# Altium schematic symbol library SCH - RF - IC - TI CC1201.SchLib: 1 symbol
Pins are listed as number, name and electrical type; pins without a type are passive.

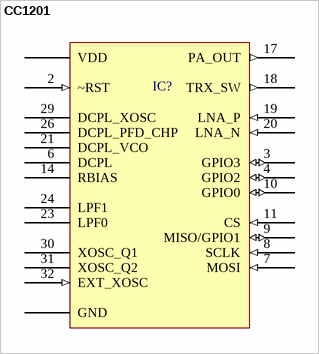
[diagram p0: symbol CC1201]

## CC1201
designator IC?  (value not drawn)
ISM Band RF Transceiver; Supplier 1: Digi-Key; Supplier Part Number 1: 296-39977-1-ND
pins: 1 VDD (power) "VDD_GUARD", 2 ~RST (in), 3 GPIO3 (io), 4 GPIO2 (io), 5 VDD (power) "DVDD", 6 DCPL, 7 MOSI (in), 8 SCLK (in), 9 MISO/GPIO1 (io), 10 GPIO0 (io), 11 CS (in), 12 VDD (power) "DVDD", 13 VDD (power) "AVDD_IF", 14 RBIAS, 15 VDD (power) "AVDD_RF", 17 PA_OUT (out), 18 TRX_SW (out), 19 LNA_P (in), 20 LNA_N (in), 21 DCPL_VCO, 22 VDD (power) "AVDD_SYNTH1", 23 LPF0, 24 LPF1, 25 VDD (power) "AVDD_PFD_CHP", 26 DCPL_PFD_CHP, 27 VDD (power) "AVDD_SYNTH2", 28 VDD (power) "AVDD_XOSC", 29 DCPL_XOSC, 30 XOSC_Q1, 31 XOSC_Q2, 32 EXT_XOSC (in), PAD GND (power)